# EAGLE library part MOTORBOARDDEV_TXB0104DR (library MotorBoardDev)
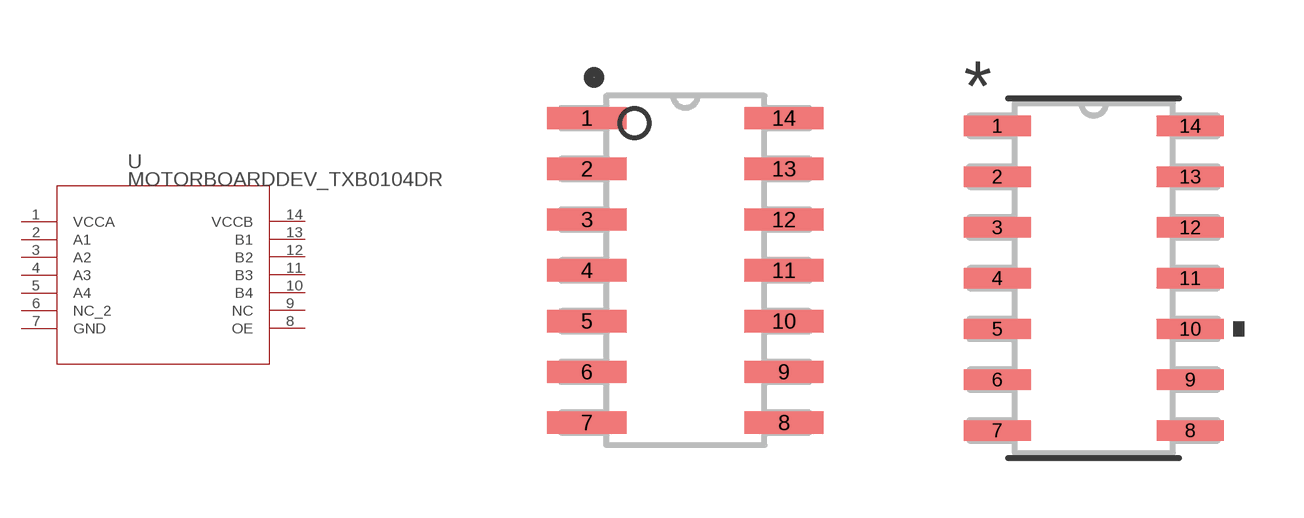
[diagram p4: symbol with the pads of MOTORBOARDDEV_D14; footprints MOTORBOARDDEV_D14, MOTORBOARDDEV_D14-L]

Designator prefix U

## MOTORBOARDDEV_TXB0104DR (MANUFACTURER_PART_NUMBER: TXB0104DR; VENDOR: Texas Instruments)  [MOTORBOARDDEV_D14]
1  VCCA  pwr
2  A1
3  A2
4  A3
5  A4
6  NC_2  pas
7  GND  pwr
8  OE  out
9  NC  pas
10  B4
11  B3
12  B2
13  B1
14  VCCB  pwr

## MOTORBOARDDEV_TXB0104DRD14-L (MANUFACTURER_PART_NUMBER: TXB0104DR; VENDOR: Texas Instruments)  [MOTORBOARDDEV_D14-L]
Pads as for MOTORBOARDDEV_D14

## MOTORBOARDDEV_TXB0104DRD14-M (MANUFACTURER_PART_NUMBER: TXB0104DR; VENDOR: Texas Instruments)  [MOTORBOARDDEV_D14-M]
Pads as for MOTORBOARDDEV_D14

## Footprint MOTORBOARDDEV_D14 (pad centres in mm)
smd 1.981 x 0.559: 1 -2.464,3.81; 2 -2.464,2.54; 3 -2.464,1.27; 4 -2.464,0; 5 -2.464,-1.27; 6 -2.464,-2.54; 7 -2.464,-3.81; 8 2.464,-3.81; 9 2.464,-2.54; 10 2.464,-1.27; 11 2.464,0; 12 2.464,1.27; 13 2.464,2.54; 14 2.464,3.81

## Footprint MOTORBOARDDEV_D14-L (pad centres in mm)
smd 1.676 x 0.508: 1 -2.413,3.81; 2 -2.413,2.54; 3 -2.413,1.27; 4 -2.413,0; 5 -2.413,-1.27; 6 -2.413,-2.54; 7 -2.413,-3.81; 8 2.413,-3.81; 9 2.413,-2.54; 10 2.413,-1.27; 11 2.413,0; 12 2.413,1.27; 13 2.413,2.54; 14 2.413,3.81

## Footprint MOTORBOARDDEV_D14-M (pad centres in mm)
smd 2.286 x 0.61: 1 -2.515,3.81; 2 -2.515,2.54; 3 -2.515,1.27; 4 -2.515,0; 5 -2.515,-1.27; 6 -2.515,-2.54; 7 -2.515,-3.81; 8 2.515,-3.81; 9 2.515,-2.54; 10 2.515,-1.27; 11 2.515,0; 12 2.515,1.27; 13 2.515,2.54; 14 2.515,3.81